# Altium footprint library LOGO.PcbLib: 6 footprints
Each footprint in its own frame and in the unit in brackets; x right, y up, seen from the top. Pads: shape width x height; smd on the part's side, far side on the other; paste and mask are expansions set on the pad; w line width, h text height; cw(c..) or ccw(c..) is an arc to the next point about the centre after c.
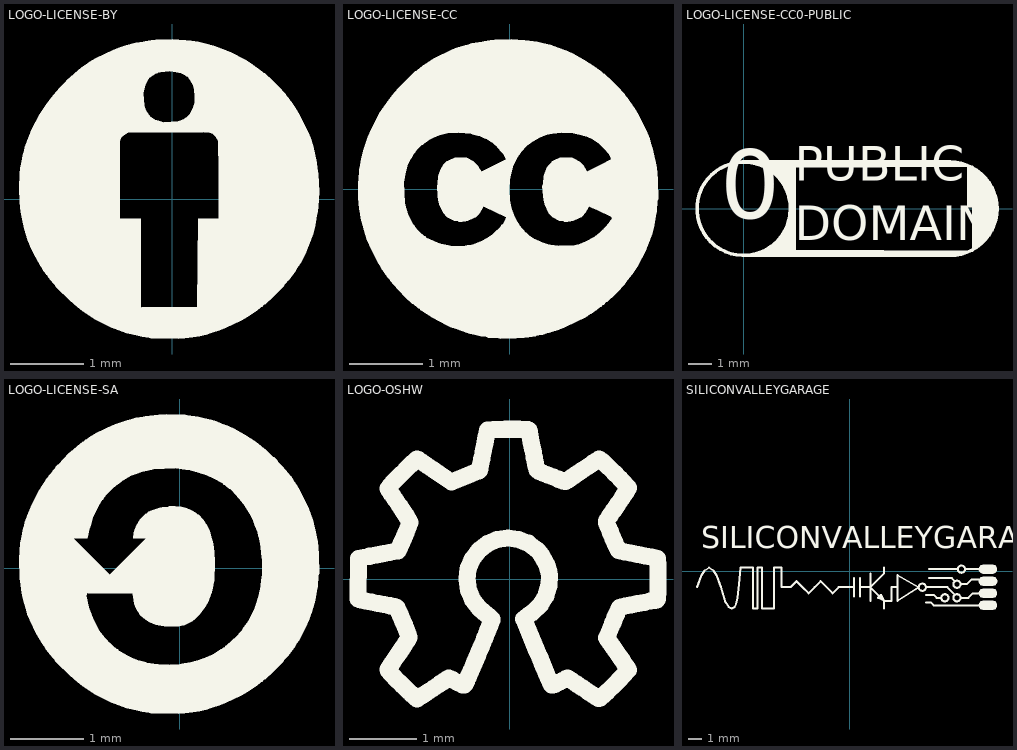
[diagram p0: the footprints below, top view; thin cyan lines are the x and y axes]

## LOGO-LICENSE-BY [mm]
Top Overlay:
  drawing of 1 lines, arcs and shapes, not listed

## LOGO-LICENSE-CC [mm]
Top Overlay:
  drawing of 1 lines, arcs and shapes, not listed

## LOGO-LICENSE-CC0-PUBLIC [mm]
Top Overlay:
  region: 0.3,1.975 1,1.7 1.6,1.15 1.95,0.4 1.972,0 1.975,-0.2 2.2,-0.2 2.2,1.725 9.45,1.775 9.45,0.05 10.675,0.05 10.575,0.7 10.3,1.175 9.975,1.475 9.375,1.875 8.725,1.975
  region: 0.3,-1.975 1,-1.7 1.6,-1.15 1.95,-0.4 1.972,0 1.975,0.2 2.2,0.2 2.2,-1.725 9.65,-1.776 9.65,0.1 10.698,0.1 10.575,-0.7 10.3,-1.175 9.975,-1.475 9.375,-1.875 8.725,-1.975
  lines w0.15: 0,-1.975 8.725,-1.975 ccw(c8.725,-0.003) 8.725,1.97 ; 0,1.975 8.725,1.975 ; 1.972,-0.01 cw(c0,0) 1.972,0
  text "PUBLIC / DOMAIN" at 2.15,-1.813 h2.5
  text "0" at -0.991,-1.363 h5

## LOGO-LICENSE-SA [mm]
Top Overlay:
  drawing of 1 lines, arcs and shapes, not listed

## LOGO-OSHW [mm]
Top Overlay:
  drawing of 271 lines, arcs and shapes, not listed

## SILICONVALLEYGARAGE [mm]
Top Overlay:
  drawing of 82 lines, arcs and shapes, not listed
  text "SILICONVALLEYGARAGE" at -11.077,1.137 h2.8